# EAGLE library part CC1R5-2405 (library FP-21T for MITS)
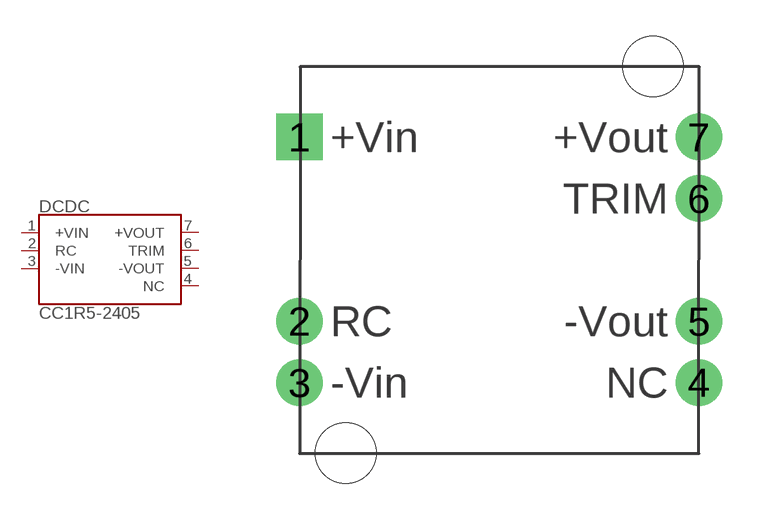
[diagram p14: symbol with the pads of CC1R5-2405; footprint CC1R5-2405]

Designator prefix DCDC

## CC1R5-2405  [CC1R5-2405]
1  +VIN
2  RC
3  -VIN
4  NC
5  -VOUT
6  TRIM
7  +VOUT

## Footprint CC1R5-2405 (pad centres in mm)
drill 1.2 pad 1.93 square: 1 0,0
drill 1.2 pad 1.93: 2 0,-7.62; 3 0,-10.16; 4 16.51,-10.16; 5 16.51,-7.62; 6 16.51,-2.54; 7 16.51,0
hole 2.5 at 1.905,-13.08
hole 2.5 at 14.605,2.92